# Altium footprint library Units.PcbLib: 8 footprints
Each footprint in its own frame and in the unit in brackets; x right, y up, seen from the top. Pads: shape width x height; smd on the part's side, far side on the other; paste and mask are expansions set on the pad; w line width, h text height; cw(c..) or ccw(c..) is an arc to the next point about the centre after c.
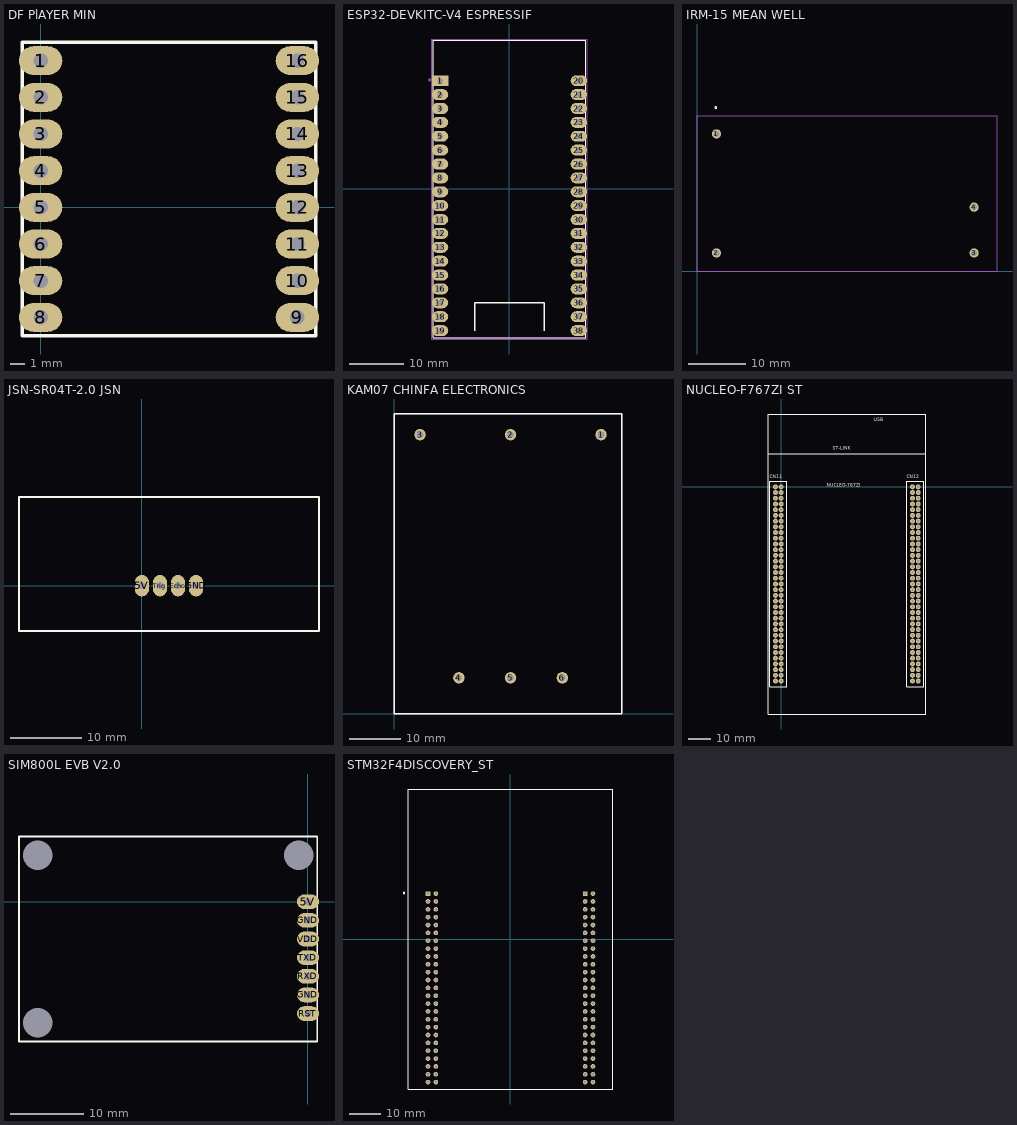
[diagram p0: the footprints below, top view; thin cyan lines are the x and y axes]

## DF PlAYER MIN [mm] "mp3 module"
pads (16):
  oval 3x2 hole 1: 1(0,10.16) 2(0,7.62) 3(0,5.08) 4(0,2.54) 5(0,0) 6(0,-2.54) 7(0,-5.08) 8(0,-7.62) 9(17.78,-7.62) 10(17.78,-5.08) 11(17.78,-2.54) 12(17.78,0) 13(17.78,2.54) 14(17.78,5.08) 15(17.78,7.62) 16(17.78,10.16)
Top Overlay:
  lines w0.254: -1.27,-8.89 19.05,-8.89 19.05,11.43 -1.27,11.43 -1.27,-8.89
3D body "MP3-TF-16P.STEP": height 12, standoff 0, extent -1.435,-9.525 19.215,11.575

## ESP32-DEVKITC-V4 ESPRESSIF [mm]
pads (38):
  rect 3x2 hole 1: 1(-12.7,19.76)
  oval 3x2 hole 1: 2(-12.7,17.22) 3(-12.7,14.68) 4(-12.7,12.14) 5(-12.7,9.6) 6(-12.7,7.06) 7(-12.7,4.52) 8(-12.7,1.98) 9(-12.7,-0.56) 10(-12.7,-3.1) 11(-12.7,-5.64) 12(-12.7,-8.18) 13(-12.7,-10.72) 14(-12.7,-13.26) 15(-12.7,-15.8) 16(-12.7,-18.34) 17(-12.7,-20.88) 18(-12.7,-23.42) 19(-12.7,-25.96) 20(12.7,19.76) 21(12.7,17.22) 22(12.7,14.68) 23(12.7,12.14) 24(12.7,9.6) 25(12.7,7.06) 26(12.7,4.52) 27(12.7,1.98) 28(12.7,-0.56) 29(12.7,-3.1) 30(12.7,-5.64) 31(12.7,-8.18) 32(12.7,-10.72) 33(12.7,-13.26) 34(12.7,-15.8) 35(12.7,-18.34) 36(12.7,-20.88) 37(12.7,-23.42) 38(12.7,-25.96)
Top Overlay:
  lines w0.127: -13.95,-27.25 13.95,-27.25 13.95,27.15 -13.95,27.15 -13.95,-27.25
  lines w0.254: -6.35,-25.96 -6.35,-20.88 6.35,-20.88 6.35,-25.96
Mechanical 4:
  circle w0.28: c-14.6,19.9 r0.14
  circle w0.28: c-14.6,19.9 r0.14
  circle w0.28: c-14.6,19.9 r0.14
  circle w0.28: c-14.6,19.9 r0.14
  lines w0.127: -13.95,-27.25 -13.95,27.15 ; -13.95,-27.25 13.95,-27.25 ; -13.95,-27.25 -13.95,27.15 ; -13.95,-27.25 13.95,-27.25 ; -13.95,27.15 13.95,27.15 ; -13.95,27.15 13.95,27.15 ; 13.95,-27.25 13.95,27.15 ; 13.95,-27.25 13.95,27.15
Mechanical 16:
  lines w0.05: -14.2,-27.5 -14.2,27.4 14.2,27.4 14.2,-27.5 -14.2,-27.5
3D body: height 15, standoff 0, extent -13.97,-27.305 13.97,27.305

## IRM-15 MEAN WELL [mm]
pads (4):
  round 1.6 / inner round 1.524 / far side round 1.6 hole 1.04: 1(3.4,24) 2(3.4,3.2) 3(48.4,3.2) 4(48.4,11.2)
Top Overlay:
  circle w0.2: c3.28,28.59 r0.161
Mechanical 8:
  lines w0.2: 0,0 0,27.2 52.4,27.2 52.4,0 0,0
Mechanical 22:
  lines w0.2: 0,0 52.4,0 52.4,27.2 0,27.2 0,0
3D body: height 24, standoff 0, extent -0.5,0 52.5,27
3D body: height 1.27, standoff 0, extent 0,27.305 0,27.305
3D body: height 1.27, standoff 0, extent 0,27.305 0,27.305

## JSN-SR04T-2.0 JSN [mm] "Плата для парктроника"
pads (4):
  oval 2x3 hole 1: 5V(0,0) Echo(5.08,0) GND(7.62,0) Trig(2.54,0)
Top Overlay:
  lines w0.254: -17.272,-6.35 -17.272,12.446 24.892,12.446 24.892,-6.35 -17.272,-6.35
3D body "JSN-SR04T with header.stp": height 35.14, standoff -1.94, extent -16.819,-5.994 24.541,12.156

## KAM07 CHINFA ELECTRONICS [mm] "AC - DC POWER MODULE"
pads (6):
  round 2.2 hole 1.3: 1(40,54) 2(22.5,54) 3(5,54) 4(12.5,7) 5(22.5,7) 6(32.5,7)
Top Overlay:
  lines w0.254: 0,0 0,58 44,58 44,0 0,0
Occupated area:
  lines w0.254: 0,0 44,0 44,58 0,58 0,0
3D body: height 18.5, standoff 0, extent 0,0 44,58

## NUCLEO-F767ZI ST [mm]
pads (140):
  round 2.2 hole 1: CN11_1(-2.54,0) CN11_2(0,0) CN11_3(-2.54,-2.54) CN11_4(0,-2.54) CN11_5(-2.54,-5.08) CN11_6(0,-5.08) CN11_7(-2.54,-7.62) CN11_8(0,-7.62) CN11_9(-2.54,-10.16) CN11_10(0,-10.16) CN11_11(-2.54,-12.7) CN11_12(0,-12.7) CN11_13(-2.54,-15.24) CN11_14(0,-15.24) CN11_15(-2.54,-17.78) CN11_16(0,-17.78) CN11_17(-2.54,-20.32) CN11_18(0,-20.32) CN11_19(-2.54,-22.86) CN11_20(0,-22.86) CN11_21(-2.54,-25.4) CN11_22(0,-25.4) CN11_23(-2.54,-27.94) CN11_24(0,-27.94) CN11_25(-2.54,-30.48) CN11_26(0,-30.48) CN11_27(-2.54,-33.02) CN11_28(0,-33.02) CN11_29(-2.54,-35.56) CN11_30(0,-35.56) CN11_31(-2.54,-38.1) CN11_32(0,-38.1) CN11_33(-2.54,-40.64) CN11_34(0,-40.64) CN11_35(-2.54,-43.18) CN11_36(0,-43.18) CN11_37(-2.54,-45.72) CN11_38(0,-45.72) CN11_39(-2.54,-48.26) CN11_40(0,-48.26) CN11_41(-2.54,-50.8) CN11_42(0,-50.8) CN11_43(-2.54,-53.34) CN11_44(0,-53.34) CN11_45(-2.54,-55.88) CN11_46(0,-55.88) CN11_47(-2.54,-58.42) CN11_48(0,-58.42) CN11_49(-2.54,-60.96) CN11_50(0,-60.96) CN11_51(-2.54,-63.5) CN11_52(0,-63.5) CN11_53(-2.54,-66.04) CN11_54(0,-66.04) CN11_55(-2.54,-68.58) CN11_56(0,-68.58) CN11_57(-2.54,-71.12) CN11_58(0,-71.12) CN11_59(-2.54,-73.66) CN11_60(0,-73.66) CN11_61(-2.54,-76.2) CN11_62(0,-76.2) CN11_63(-2.54,-78.74) CN11_64(0,-78.74) CN11_65(-2.54,-81.28) CN11_66(0,-81.28) CN11_67(-2.54,-83.82) CN11_68(0,-83.82) CN11_69(-2.54,-86.36) CN11_70(0,-86.36) CN12_1(58.42,0) CN12_2(60.96,0) CN12_3(58.42,-2.54) CN12_4(60.96,-2.54) CN12_5(58.42,-5.08) CN12_6(60.96,-5.08) CN12_7(58.42,-7.62) CN12_8(60.96,-7.62) CN12_9(58.42,-10.16) CN12_10(60.96,-10.16) CN12_11(58.42,-12.7) CN12_12(60.96,-12.7) CN12_13(58.42,-15.24) CN12_14(60.96,-15.24) CN12_15(58.42,-17.78) CN12_16(60.96,-17.78) CN12_17(58.42,-20.32) CN12_18(60.96,-20.32) CN12_19(58.42,-22.86) CN12_20(60.96,-22.86) CN12_21(58.42,-25.4) CN12_22(60.96,-25.4) CN12_23(58.42,-27.94) CN12_24(60.96,-27.94) CN12_25(58.42,-30.48) CN12_26(60.96,-30.48) CN12_27(58.42,-33.02) CN12_28(60.96,-33.02) CN12_29(58.42,-35.56) CN12_30(60.96,-35.56) CN12_31(58.42,-38.1) CN12_32(60.96,-38.1) CN12_33(58.42,-40.64) CN12_34(60.96,-40.64) CN12_35(58.42,-43.18) CN12_36(60.96,-43.18) CN12_37(58.42,-45.72) CN12_38(60.96,-45.72) CN12_39(58.42,-48.26) CN12_40(60.96,-48.26) CN12_41(58.42,-50.8) CN12_42(60.96,-50.8) CN12_43(58.42,-53.34) CN12_44(60.96,-53.34) CN12_45(58.42,-55.88) CN12_46(60.96,-55.88) CN12_47(58.42,-58.42) CN12_48(60.96,-58.42) CN12_49(58.42,-60.96) CN12_50(60.96,-60.96) CN12_51(58.42,-63.5) CN12_52(60.96,-63.5) CN12_53(58.42,-66.04) CN12_54(60.96,-66.04) CN12_55(58.42,-68.58) CN12_56(60.96,-68.58) CN12_57(58.42,-71.12) CN12_58(60.96,-71.12) CN12_59(58.42,-73.66) CN12_60(60.96,-73.66) CN12_61(58.42,-76.2) CN12_62(60.96,-76.2) CN12_63(58.42,-78.74) CN12_64(60.96,-78.74) CN12_65(58.42,-81.28) CN12_66(60.96,-81.28) CN12_67(58.42,-83.82) CN12_68(60.96,-83.82) CN12_69(58.42,-86.36) CN12_70(60.96,-86.36)
Top Overlay:
  lines w0.254: -5.715,14.605 64.285,14.605 ; -5.715,-101.015 -5.715,32.385 64.285,32.385 64.285,-101.015 -5.715,-101.015 ; -5.08,-88.9 -5.08,2.54 2.54,2.54 2.54,-88.9 -5.08,-88.9 ; 55.88,-88.9 55.88,2.54 57.15,2.54 63.5,2.54 63.5,-88.9 55.88,-88.9
  text "NUCLEO-767ZI" at 20.32,0 h1.52
  text "ST-LINK" at 22.86,16.51 h1.52
  text "USB" at 41.275,29.21 h1.52
  text "CN12" at 55.88,3.81 h1.52
  text "CN11" at -5.08,3.81 h1.52
3D body: height 25, standoff 0, extent -5.715,-100.965 64.135,32.385

## SIM800L EVB V2.0 [mm] "GPS JPSRS module"
pads (10):
  oval 3x2 hole 1: 5V(0,0) GND(0,-12.7) GND(0,-2.54) RST(0,-15.24) RXD(0,-10.16) TXD(0,-7.62) VDD(0,-5.08)
  round 0 hole 4: HOLE(-36.83,-16.51) HOLE(-36.83,6.35) HOLE(-1.27,6.35)
Top Overlay:
  lines w0.254: -39.37,-19.05 -39.37,8.89 -26.67,8.89 1.27,8.89 1.27,-19.05 -39.37,-19.05
3D body: height 15, standoff 0, extent -39.37,-19.05 1.27,8.89

## STM32F4DISCOVERY_ST [mm]
pads (100):
  rect 1.508x1.508 hole 1: P1_1(-26.67,14.68) P2_1(24.13,14.68)
  round 1.508 hole 1: P1_2(-24.13,14.68) P1_3(-26.67,12.14) P1_4(-24.13,12.14) P1_5(-26.67,9.6) P1_6(-24.13,9.6) P1_7(-26.67,7.06) P1_8(-24.13,7.06) P1_9(-26.67,4.52) P1_10(-24.13,4.52) P1_11(-26.67,1.98) P1_12(-24.13,1.98) P1_13(-26.67,-0.56) P1_14(-24.13,-0.56) P1_15(-26.67,-3.1) P1_16(-24.13,-3.1) P1_17(-26.67,-5.64) P1_18(-24.13,-5.64) P1_19(-26.67,-8.18) P1_20(-24.13,-8.18) P1_21(-26.67,-10.72) P1_22(-24.13,-10.72) P1_23(-26.67,-13.26) P1_24(-24.13,-13.26) P1_25(-26.67,-15.8) P1_26(-24.13,-15.8) P1_27(-26.67,-18.34) P1_28(-24.13,-18.34) P1_29(-26.67,-20.88) P1_30(-24.13,-20.88) P1_31(-26.67,-23.42) P1_32(-24.13,-23.42) P1_33(-26.67,-25.96) P1_34(-24.13,-25.96) P1_35(-26.67,-28.5) P1_36(-24.13,-28.5) P1_37(-26.67,-31.04) P1_38(-24.13,-31.04) P1_39(-26.67,-33.58) P1_40(-24.13,-33.58) P1_41(-26.67,-36.12) P1_42(-24.13,-36.12) P1_43(-26.67,-38.66) P1_44(-24.13,-38.66) P1_45(-26.67,-41.2) P1_46(-24.13,-41.2) P1_47(-26.67,-43.74) P1_48(-24.13,-43.74) P1_49(-26.67,-46.28) P1_50(-24.13,-46.28) P2_2(26.67,14.68) P2_3(24.13,12.14) P2_4(26.67,12.14) P2_5(24.13,9.6) P2_6(26.67,9.6) P2_7(24.13,7.06) P2_8(26.67,7.06) P2_9(24.13,4.52) P2_10(26.67,4.52) P2_11(24.13,1.98) P2_12(26.67,1.98) P2_13(24.13,-0.56) P2_14(26.67,-0.56) P2_15(24.13,-3.1) P2_16(26.67,-3.1) P2_17(24.13,-5.64) P2_18(26.67,-5.64) P2_19(24.13,-8.18) P2_20(26.67,-8.18) P2_21(24.13,-10.72) P2_22(26.67,-10.72) P2_23(24.13,-13.26) P2_24(26.67,-13.26) P2_25(24.13,-15.8) P2_26(26.67,-15.8) P2_27(24.13,-18.34) P2_28(26.67,-18.34) P2_29(24.13,-20.88) P2_30(26.67,-20.88) P2_31(24.13,-23.42) P2_32(26.67,-23.42) P2_33(24.13,-25.96) P2_34(26.67,-25.96) P2_35(24.13,-28.5) P2_36(26.67,-28.5) P2_37(24.13,-31.04) P2_38(26.67,-31.04) P2_39(24.13,-33.58) P2_40(26.67,-33.58) P2_41(24.13,-36.12) P2_42(26.67,-36.12) P2_43(24.13,-38.66) P2_44(26.67,-38.66) P2_45(24.13,-41.2) P2_46(26.67,-41.2) P2_47(24.13,-43.74) P2_48(26.67,-43.74) P2_49(24.13,-46.28) P2_50(26.67,-46.28)
Top Overlay:
  circle w0.4: c-34.41,14.88 r0.2
  lines w0.127: -33,-48.5 33,-48.5 33,48.5 -33,48.5 -33,-48.5